# Altium schematic symbol library TLP7820.SchLib: 1 symbol
Pins are listed as number, name and electrical type; pins without a type are passive.

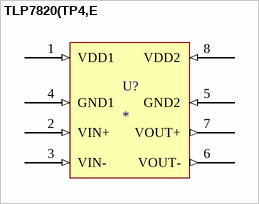
[diagram p0: symbol TLP7820(TP4,E]

## TLP7820(TP4,E
designator U?
ComponentLink1Description: Digikey; ComponentLink1URL: https://www.digikey.com/en/products/detail/toshiba-semiconductor-and-storage/TLP7820-TP4-E/5848503; ComponentLink2Description: Other components; ComponentLink2URL: https://www.digikey.com/en/products/filter/linear/amplifiers/instrumentation-op-amps-buffer-amps/687?s=N4IgjCBcoGwJxVAYygMwIYBsDOBTANCAPZQDaIALAAxwDMdIAuoQA4AuUIAymwE4CWAOwDmIAL6EwMCNBApIGHAWJkQtaQFZqTVh0jc%2BQ0RPBwAHAlnzFeQiUjkqTEwFoATIjlQ%2BAV2X3yDRBCBEYxExhPfgATThcwKghdTmCQAEc2AE9OBNSsllxOdGwUcKA
footprint SOIC127P1100X220-8N (SOIC, 8-Leads, Body 5.85x7.50mm, Pitch 1.27mm, IPC Medium Density)
pins: 1 VDD1 (in), 2 VIN+ (in), 3 VIN- (in), 4 GND1 (in), 5 GND2 (in), 6 VOUT- (out), 7 VOUT+ (out), 8 VDD2 (in)